# Altium schematic symbol library SchematicLib.SchLib: 11 symbols
Pins are listed as number, name and electrical type; pins without a type are passive.

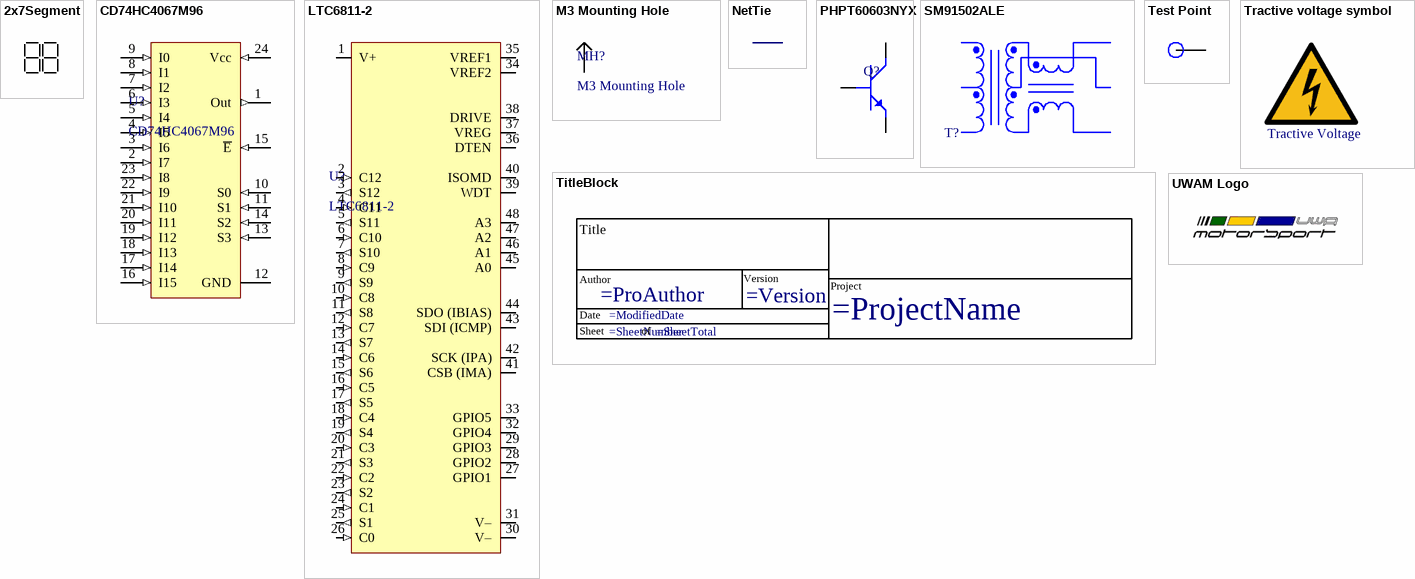
[diagram p0: symbols 2x7Segment to UWAM Logo]

## 2x7Segment
designator S?  (value not drawn)  (no BOM)
footprint 2x7Segment

## CD74HC4067M96
designator U?
High-Speed CMOS Logic / 16-Channel Analog Multiplexer/Demultiplexer
footprint SOIC127P1030X265-24N (SOIC, 24-Leads, Body 15.40x7.50mm, Pitch 1.27mm, IPC Medium Density)
pins: 1 Out (out), 2 I7 (in), 3 I6 (in), 4 I5 (in), 5 I4 (in), 6 I3 (in), 7 I2 (in), 8 I1 (in), 9 I0 (in), 10 S0 (in), 11 S1 (in), 12 GND (power), 13 S3 (in), 14 S2 (in), 15 ~{E} (in), 16 I15 (in), 17 I14 (in), 18 I13 (in), 19 I12 (in), 20 I11 (in), 21 I10 (in), 22 I9 (in), 23 I8 (in), 24 Vcc (in)

## LTC6811-2
designator U?
12 Channel Multicell Battery Monitor with Addressable Interface
footprint SSOP50P780X200-48N (SSOP, 48-Leads, Body 12.80x5.30mm, Pitch 0.50mm, IPC Medium Density)
pins: 1 V+ (power), 2 C12 (in), 3 S12 (out), 4 C11 (in), 5 S11 (out), 6 C10 (in), 7 S10 (out), 8 C9 (in), 9 S9 (out), 10 C8 (in), 11 S8 (out), 12 C7 (in), 13 S7 (out), 14 C6 (in), 15 S6 (out), 16 C5 (in), 17 S5 (out), 18 C4 (in), 19 S4 (out), 20 C3 (in), 21 S3 (out), 22 C2 (in), 23 S2 (out), 24 C1 (in), 25 S1 (out), 26 C0 (in), 27 GPIO1 (io), 28 GPIO2 (io), 29 GPIO3 (io), 30 V– (power), 31 V– (power), 32 GPIO4 (io), 33 GPIO5 (io), 34 VREF2 (power), 35 VREF1 (power), 36 DTEN, 37 VREG (power), 38 DRIVE, 39 WDT, 40 ISOMD, 41 CSB (IMA) (io), 42 SCK (IPA) (io), 43 SDI (ICMP), 44 SDO (IBIAS), 45 A0, 46 A1, 47 A2, 48 A3

## M3 Mounting Hole
designator MH?  (no BOM)
footprint M3 MH (M3 Mounting Hole)
pins: 1

## NetTie
designator NT?  (value not drawn)  (net tie, no BOM)
footprint NetTie
pins: 1, 2

## PHPT60603NYX
designator Q?  (value not drawn)
60V, 3 A NPN high power bipolar transistor
footprint LFPAK56 (SOT669) (4 Lead SOT)
pins: 1 Emitter, 2 Emitter, 3 Emitter, 4 Base, 5 Collector

## SM91502ALE
designator T?  (value not drawn)
BMS XFORMER 1-CH 1000V AECQ +125; Manufacturer: Bourns; Inductance: 150uH; Turns Ratio: 1:1; Supplier 1: RSComponents; Manufacturer Part Number: SM91502ALE; RoHS: Yes; Category: Transformers; Stock 1: 1; Pricing 1: 800=2.35100 (USD); Mount: Surface Mount; Min Operating Temperature: -40°C; Max Operating Temperature: 125°C; Packaging: Cut Tape; ComponentLink1URL: https://www.bourns.com/docs/Product-Datasheets/SM91502AL.pdf?src-supplier=Digi-Key; ComponentLink1Description: https://www.bourns.com/docs/Product-Datasheets/SM91502AL.pdf?src-supplier=Digi-Key; Supplier Part Number 1: 1802382
footprint SM91502ALE
pins: 1, 2, 3, 4, 5, 6

## Test Point
designator TP?, comment 1.2mm Test point  (value not drawn)  (no BOM)
footprint Test Point (1.2mm Test point)
pins: 1

## TitleBlock
designator *  (value not drawn)  (graphical)
text: Title; Author; Version; Project; Date; Sheet; of

## Tractive voltage symbol
designator ?  (value not drawn)  (no BOM)
footprint Tractive voltage
text: Tractive Voltage

## UWAM Logo
designator *  (value not drawn)  (graphical)
footprint UWAM Logo